# Altium footprint library MOV_0805_2012.PcbLib: 1 footprints
Each footprint in its own frame and in the unit in brackets; x right, y up, seen from the top. Pads: shape width x height; smd on the part's side, far side on the other; paste and mask are expansions set on the pad; w line width, h text height; cw(c..) or ccw(c..) is an arc to the next point about the centre after c.
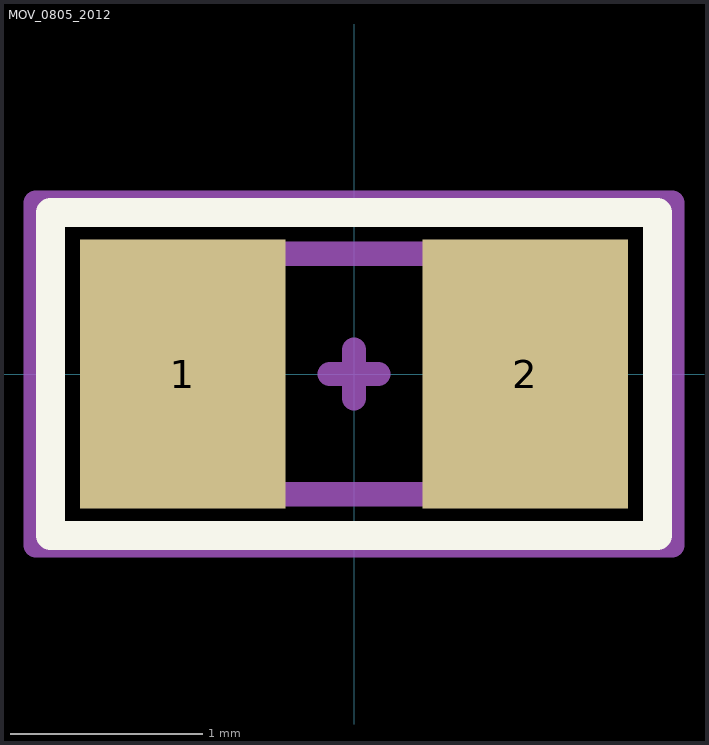
[diagram p0: the footprint, top view; thin cyan lines are the x and y axes]

## MOV_0805_2012 [mil]
pads (2):
  rect 42x55 smd: 1(-35,0) 2(35,0)
Top Overlay:
  lines w6: -62,-33 -62,33 62,33 62,-33 -62,-33
Top Assembly:
  lines w5: -35.99,-24.6 42.75,-24.6 42.75,24.61 -35.99,24.61 -35.99,-24.6
Top Courtyard:
  lines w5: -5,0 5,0 ; 0,-5 0,5 ; -65,-35 65,-35 65,35 -65,35 -65,-35
3D body "User Library-V0805HD.STEP": height 46.73, standoff -0.51, extent -35.99,-24.6 42.75,24.61